# Altium footprint library 4G1.PcbLib: 32 footprints (part 1 of 2)
Each footprint in its own frame and in the unit in brackets; x right, y up, seen from the top. Pads: shape width x height; smd on the part's side, far side on the other; paste and mask are expansions set on the pad; w line width, h text height; cw(c..) or ccw(c..) is an arc to the next point about the centre after c.
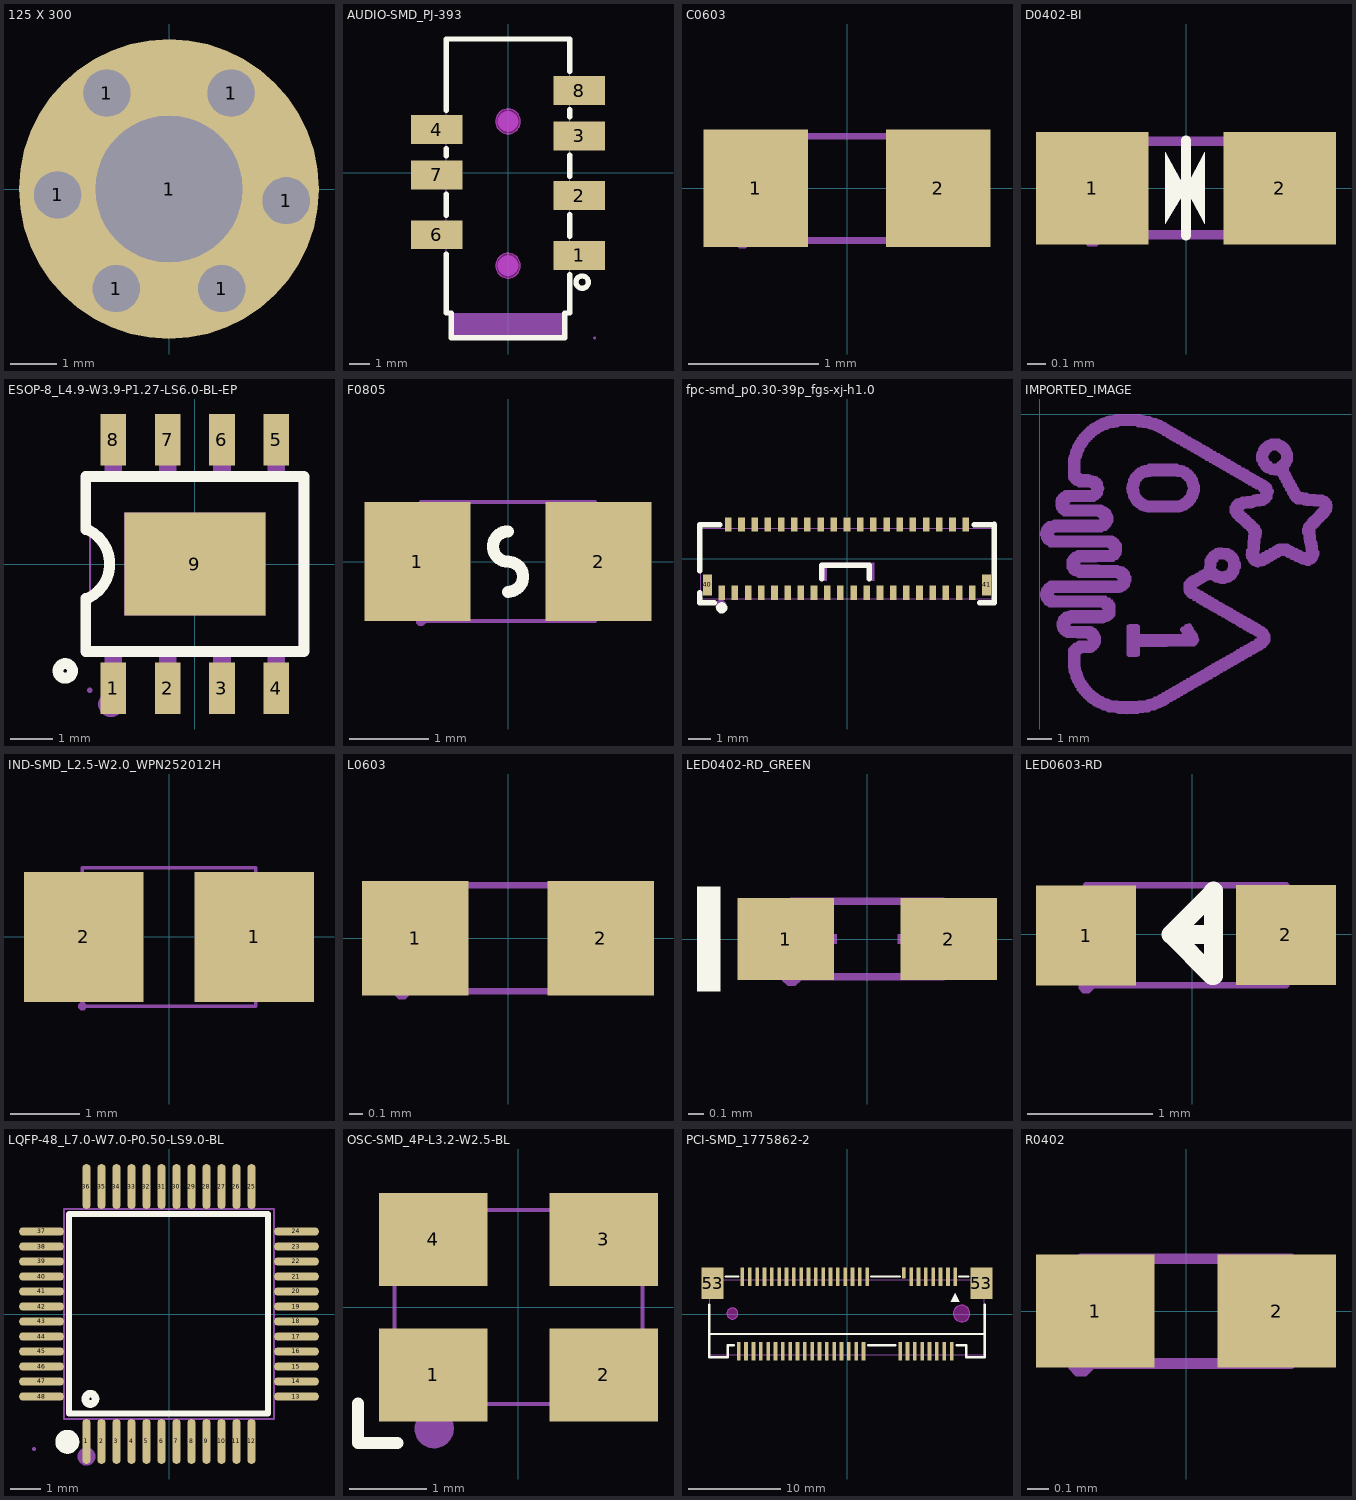
[diagram p0: the footprints below, top view; thin cyan lines are the x and y axes]

## 125 X 300 [mil]
pads (7):
  round 40 hole 40 slot 40.2 at 0 deg paste-99999 mask+4: 1(-95,-5) 1(100,-10)
  round 40 hole 40 slot 40.2 at 120 deg paste-99999 mask+4: 1(-53,81.8) 1(45,-85)
  round 40 hole 40 slot 40.2 at 60 deg paste-99999 mask+4: 1(-45,-85) 1(53,81.8)
  round 255.91 hole 125 slot 125.2 at 0 deg paste-99999 mask+4: 1(0,0)

## AUDIO-SMD_PJ-393 [mm]
pads (7):
  rect 2.5x1.4 smd: 1(3.45,-4) 2(3.45,-1.1) 3(3.45,1.8) 4(-3.45,2.1) 6(-3.45,-3) 7(-3.45,-0.1) 8(3.45,4)
Top Overlay:
  circle w0.254: c3.6,-5.3 r0.3
  lines w0.254: -3,-5.9 -3,-3.931 ; -3,-5.85 -3,-6.8 -2.75,-6.8 -2.75,-8 2.75,-8 2.75,-6.8 3,-6.8 3,-4.931 ; -3,-2.069 -3,-1.031 ; -3,0.831 -3,1.169 ; -3,3.031 -3,6.5 3,6.5 3,4.931 ; 3,-3.069 3,-2.031 ; 3,-0.169 3,0.869 ; 3,2.731 3,3.069
Keep-Out Layer:
  board cut-out: 0.6,-4.5 0.6,-4.619 0.509,-4.84 0.34,-5.009 0.119,-5.1 -0.119,-5.1 -0.34,-5.009 -0.509,-4.84 -0.6,-4.619 -0.6,-4.5 -0.6,-4.381 -0.509,-4.16 -0.34,-3.991 -0.119,-3.9 0.119,-3.9 0.34,-3.991 0.509,-4.16 0.6,-4.381 0.6,-4.5
  board cut-out: 0.6,2.5 0.6,2.38 0.509,2.16 0.34,1.991 0.119,1.9 -0.119,1.9 -0.34,1.991 -0.509,2.16 -0.6,2.38 -0.6,2.5 -0.6,2.619 -0.509,2.84 -0.34,3.008 -0.119,3.1 0.119,3.1 0.34,3.008 0.509,2.84 0.6,2.619 0.6,2.5
Keep-Out Layer:
  circle w0.005: c0,-4.5 r0.6
  circle w0.005: c0,2.5 r0.6
  region: 0.6,-4.5 0.6,-4.619 0.509,-4.84 0.34,-5.009 0.119,-5.1 -0.119,-5.1 -0.34,-5.009 -0.509,-4.84 -0.6,-4.619 -0.6,-4.5 -0.6,-4.381 -0.509,-4.16 -0.34,-3.991 -0.119,-3.9 0.119,-3.9 0.34,-3.991 0.509,-4.16 0.6,-4.381 0.6,-4.5
  region: 0.6,2.5 0.6,2.38 0.509,2.16 0.34,1.991 0.119,1.9 -0.119,1.9 -0.34,1.991 -0.509,2.16 -0.6,2.38 -0.6,2.5 -0.6,2.619 -0.509,2.84 -0.34,3.008 -0.119,3.1 0.119,3.1 0.34,3.008 0.509,2.84 0.6,2.619 0.6,2.5
Mechanical 1:
  circle w0.005: c0,-4.5 r0.6
  circle w0.005: c0,2.5 r0.6
Mechanical 6:
  circle w0.5: c0,2.5 r0.25
  circle w0.5: c0,-4.5 r0.25
  region: -2.7,-6.8 -2.7,-7.95 2.7,-7.95 2.7,-6.8
Mechanical 15:
  region: 4.26,-8 4.26,-8.025 4.225,-8.06 4.175,-8.06 4.14,-8.025 4.14,-8 4.14,-7.975 4.175,-7.94 4.225,-7.94 4.26,-7.975 4.26,-8
  region: 2.9,4.5 4.2,4.5 4.2,3.5 2.9,3.5
  region: -4.2,-2.5 -2.9,-2.5 -2.9,-3.5 -4.2,-3.5
  region: 2.9,-0.6 4.2,-0.6 4.2,-1.6 2.9,-1.6
  region: 2.9,2.3 4.2,2.3 4.2,1.3 2.9,1.3
  region: 2.9,-3.5 4.2,-3.5 4.2,-4.5 2.9,-4.5
  region: -4.2,0.4 -2.9,0.4 -2.9,-0.6 -4.2,-0.6
  region: -4.2,2.6 -2.9,2.6 -2.9,1.6 -4.2,1.6
  lines w0.051: -3,-6.8 -3,6.5 3,6.5 3,-6.8 2.75,-6.8 2.75,-8 -2.75,-8 -2.75,-6.8 -3,-6.8

## C0603 [mm]
pads (2):
  rect 0.8x0.9 smd paste+0 mask+0.051: 1(-0.7,0) 2(0.7,0)
Mechanical 15:
  region: 0.8,-0.4 0.8,0.4 0.5,0.4 0.5,-0.4
  region: -0.8,-0.4 -0.8,0.4 -0.5,0.4 -0.5,-0.4
  region: -0.74,-0.4 -0.74,-0.375 -0.775,-0.34 -0.825,-0.34 -0.86,-0.375 -0.86,-0.4 -0.86,-0.425 -0.825,-0.46 -0.775,-0.46 -0.74,-0.425 -0.74,-0.4
  lines w0.051: -0.8,-0.4 0.8,-0.4 0.8,0.4 -0.8,0.4 -0.8,-0.4

## D0402-BI [mm]
pads (2):
  rect 0.6x0.6 smd paste-100 mask+0.051: 1(-0.5,0) 2(0.5,0)
Top Overlay:
  region: 0,0 0.1,0.19 0.1,-0.19
  region: 0,-0.01 -0.11,-0.19 -0.11,-0.01 -0.11,0.19
  lines w0.051: 0,-0.254 0,0.254
Top Paste:
  region: 0.78,0.225 0.78,-0.225 0.73,-0.275 0.25,-0.275 0.18,-0.225 0.18,0.225 0.25,0.275 0.73,0.275
  region: -0.18,0.225 -0.18,-0.225 -0.25,-0.275 -0.73,-0.275 -0.78,-0.225 -0.78,0.225 -0.73,0.275 -0.25,0.275
Mechanical 6:
  region: 0,0 0.1,0.19 0.1,-0.19
  region: 0,-0.01 -0.11,-0.19 -0.11,-0.01 -0.11,0.19
Mechanical 15:
  region: -0.5,-0.31 -0.475,-0.31 -0.44,-0.275 -0.44,-0.225 -0.475,-0.19 -0.5,-0.19 -0.525,-0.19 -0.56,-0.225 -0.56,-0.275 -0.525,-0.31 -0.5,-0.31
  region: 0.25,0.25 0.5,0.25 0.5,-0.25 0.25,-0.25
  region: -0.25,-0.25 -0.5,-0.25 -0.5,0.25 -0.25,0.25
  lines w0.051: -0.5,-0.25 0.5,-0.25 0.5,0.25 -0.5,0.25 -0.5,-0.25

## ESOP-8_L4.9-W3.9-P1.27-LS6.0-BL-EP [mm]
pads (9):
  rect 0.6x1.2 smd: 1(-1.905,-2.908) 2(-0.635,-2.908) 3(0.635,-2.908) 4(1.905,-2.908) 5(1.905,2.908) 6(0.635,2.908) 7(-0.635,2.908) 8(-1.905,2.908)
  rect 3.3x2.4 smd: 9(0,0)
Top Overlay:
  circle w0.254: c-3.03,-2.5 r0.17
  lines w0.254: -2.55,-0.8 -2.55,-2.05 2.55,-2.05 2.55,2.05 -2.55,2.05 -2.55,0.8 ; -2.5,-0.8 ccw(c-2.875,0) -2.5,0.8
Mechanical 6:
  circle w0.3: c-1.96,-3.28 r0.15
Mechanical 15:
  region: 1.65,-1.2 -1.65,-1.2 -1.65,1.2 1.65,1.2
  region: 1.705,-2.95 1.705,-2.3 2.105,-2.3 2.105,-2.95
  region: 1.705,-2.31 1.705,-1.94 2.105,-1.94 2.105,-2.31
  region: 0.435,-2.95 0.435,-2.3 0.835,-2.3 0.835,-2.95
  region: 0.435,-2.31 0.435,-1.94 0.835,-1.94 0.835,-2.31
  region: -0.835,-2.95 -0.835,-2.3 -0.435,-2.3 -0.435,-2.95
  region: -0.835,-2.31 -0.835,-1.94 -0.435,-1.94 -0.435,-2.31
  region: -2.105,-2.95 -2.105,-2.3 -1.705,-2.3 -1.705,-2.95
  region: -2.105,-2.31 -2.105,-1.94 -1.705,-1.94 -1.705,-2.31
  region: 1.705,2.3 1.705,2.95 2.105,2.95 2.105,2.3
  region: 1.705,1.94 1.705,2.31 2.105,2.31 2.105,1.94
  region: 0.435,2.3 0.435,2.95 0.835,2.95 0.835,2.3
  region: 0.435,1.94 0.435,2.31 0.835,2.31 0.835,1.94
  region: -0.835,2.3 -0.835,2.95 -0.435,2.95 -0.435,2.3
  region: -0.835,1.94 -0.835,2.31 -0.435,2.31 -0.435,1.94
  region: -2.105,2.3 -2.105,2.95 -1.705,2.95 -1.705,2.3
  region: -2.105,1.94 -2.105,2.31 -1.705,2.31 -1.705,1.94
  region: -2.514,-2.95 -2.514,-2.975 -2.479,-3.01 -2.429,-3.01 -2.394,-2.975 -2.394,-2.95 -2.394,-2.925 -2.429,-2.89 -2.479,-2.89 -2.514,-2.925 -2.514,-2.95
  lines w0.051: -2.45,-1.95 -2.45,1.95 2.45,1.95 2.45,-1.95 -2.45,-1.95

## F0805 [mm]
pads (2):
  rect 1.335x1.5 smd paste-100 mask+0.051: 1(-1.142,0) 2(1.142,0)
Top Overlay:
  lines w0.152: 0,-0.381 ccw(c0,-0.191) 0,0 cw(c0,0.191) 0,0.381
Top Paste:
  region: 0.475,-0.62 0.475,-0.2 0.92,-0.2 0.92,0.25 0.48,0.25 0.475,0.66 0.525,0.71 1.675,0.71 1.725,0.66 1.725,-0.62 1.675,-0.67 0.525,-0.67
  region: -1.675,-0.62 -1.675,0.66 -1.625,0.71 -0.475,0.71 -0.425,0.66 -0.42,0.25 -0.87,0.25 -0.87,-0.2 -0.43,-0.2 -0.425,-0.62 -0.475,-0.67 -1.625,-0.67
Mechanical 15:
  region: 1.1,-0.75 0.9,-0.75 0.9,0.75 1.1,0.75
  region: -1.1,0.75 -0.9,0.75 -0.9,-0.75 -1.1,-0.75
  region: -1.16,-0.75 -1.16,-0.725 -1.125,-0.69 -1.075,-0.69 -1.04,-0.725 -1.04,-0.75 -1.04,-0.775 -1.075,-0.81 -1.125,-0.81 -1.16,-0.775 -1.16,-0.75
  lines w0.051: -1.1,-0.75 1.1,-0.75 1.1,0.75 -1.1,0.75 -1.1,-0.75

## fpc-smd_p0.30-39p_fgs-xj-h1.0 [mm]
pads (41):
  rect 0.3x0.65 smd paste+0 mask+0.051: 1(5.7,-1.55) 2(5.4,1.55) 3(5.1,-1.55) 4(4.8,1.55) 5(4.5,-1.55) 6(4.2,1.55) 7(3.9,-1.55) 8(3.6,1.55) 9(3.3,-1.55) 10(3,1.55) 11(2.7,-1.55) 12(2.4,1.55) 13(2.1,-1.55) 14(1.8,1.55) 15(1.5,-1.55) 16(1.2,1.55) 17(0.9,-1.55) 18(0.6,1.55) 19(0.3,-1.55) 20(0,1.55) 21(-0.3,-1.55) 22(-0.6,1.55) 23(-0.9,-1.55) 24(-1.2,1.55) 25(-1.5,-1.55) 26(-1.8,1.55) 27(-2.1,-1.55) 28(-2.4,1.55) 29(-2.7,-1.55) 30(-3,1.55) 31(-3.3,-1.55) 32(-3.6,1.55) 33(-3.9,-1.55) 34(-4.2,1.55) 35(-4.5,-1.55) 36(-4.8,1.55) 37(-5.1,-1.55) 38(-5.4,1.55) 39(-5.7,-1.55)
  rect 0.4x0.95 smd paste+0 mask+0.051: 40(-6.35,-1.2) 41(6.35,-1.2)
Top Overlay:
  circle w0.254: c-5.7,-2.24 r0.127
  lines w0.254: -6.705,1.544 -5.781,1.544 ; -6.701,-2 -6.044,-2 ; -6.701,-1.849 -6.701,-1.998 -6.701,-1.548 ; -6.701,-0.551 -6.701,1.544 ; -1.14,-0.92 -1.14,-0.3 1.02,-0.3 1.02,-0.92 ; 5.781,1.544 6.7,1.544 ; 6.044,-2 6.7,-2 ; 6.7,-1.85 6.7,-2 ; 6.7,-0.55 6.7,1.55 6.7,-1.55 6.7,-2
Mechanical 6:
  circle w0.254: c-5.74,-2.13 r0.127
  region: 0.99,-1.01 0.99,-0.42 1,-0.41 -0.93,-0.41 -0.93,-0.99 -0.93,-1.01 -0.95,-1.01 -1.17,-1.01 -1.17,-0.2 1.25,-0.2 1.25,-1 1.25,-1.01
Mechanical 15:
  drawing of 46 lines, arcs and shapes, not listed

## IMPORTED_IMAGE [mm]
Bottom Overlay:
  drawing of 3 lines, arcs and shapes, not listed

## IND-SMD_L2.5-W2.0_WPN252012H [mm]
pads (2):
  rect 1.724x1.87 smd: 1(1.228,0) 2(-1.228,0)
Mechanical 15:
  region: -0.45,-0.825 -1.25,-0.825 -1.25,0.825 -0.45,0.825
  region: 0.45,0.825 1.25,0.825 1.25,-0.825 0.45,-0.825
  region: -1.19,-1 -1.19,-0.975 -1.225,-0.94 -1.275,-0.94 -1.31,-0.975 -1.31,-1 -1.31,-1.025 -1.275,-1.06 -1.225,-1.06 -1.19,-1.025 -1.19,-1
  lines w0.051: -1.25,-1 1.25,-1 1.25,1 -1.25,1 -1.25,-1

## L0603 [mm]
pads (2):
  rect 0.8x0.864 smd paste-100 mask+0.051: 1(-0.7,0) 2(0.7,0)
Top Paste:
  region: 0.264,0.154 0.264,-0.122 0.538,-0.416 1.042,-0.416 1.106,-0.352 1.106,0.384 1.042,0.448 0.538,0.448
  region: -0.252,0.143 -0.252,-0.134 -0.526,-0.427 -1.029,-0.427 -1.093,-0.363 -1.093,0.373 -1.029,0.437 -0.526,0.437
Mechanical 15:
  region: -0.5,-0.4 -0.8,-0.4 -0.8,0.4 -0.5,0.4
  region: 0.8,-0.4 0.5,-0.4 0.5,0.4 0.8,0.4
  region: -0.8,-0.46 -0.825,-0.46 -0.86,-0.425 -0.86,-0.375 -0.825,-0.34 -0.8,-0.34 -0.775,-0.34 -0.74,-0.375 -0.74,-0.425 -0.775,-0.46 -0.8,-0.46
  lines w0.051: -0.8,-0.4 -0.8,0.4 0.8,0.4 0.8,-0.4 -0.8,-0.4

## LED0402-RD_GREEN [mm]
pads (2):
  rect 0.636x0.54 smd paste-100 mask+0.051: 1(-0.538,0) 2(0.538,0)
Top Overlay:
  region: -0.971,-0.346 -0.971,0.346 -1.123,0.346 -1.123,-0.346
Top Paste:
  region: -0.198,-0.23 -0.198,0.23 -0.238,0.27 -0.816,0.27 -0.856,0.23 -0.856,-0.23 -0.816,-0.27 -0.238,-0.27
  region: 0.198,-0.23 0.198,0.23 0.238,0.27 0.816,0.27 0.856,0.23 0.856,-0.23 0.816,-0.27 0.238,-0.27
Mechanical 6:
  region: 0.35,-0.2 0.35,0.2 0.29,0.2 0.29,-0.2
  region: 0.44,-0.03 0.44,0.03 0.2,0.03 0.2,-0.03
  region: -0.44,-0.03 -0.44,0.03 -0.2,0.03 -0.2,-0.03
Mechanical 15:
  region: 0.5,-0.25 0.5,0.25 0.3,0.25 0.3,-0.25
  region: -0.5,-0.25 -0.5,0.25 -0.3,0.25 -0.3,-0.25
  region: -0.5,-0.19 -0.475,-0.19 -0.44,-0.225 -0.44,-0.275 -0.475,-0.31 -0.5,-0.31 -0.525,-0.31 -0.56,-0.275 -0.56,-0.225 -0.525,-0.19 -0.5,-0.19
  lines w0.051: -0.5,-0.25 0.5,-0.25 0.5,0.25 -0.5,0.25 -0.5,-0.25

## LED0603-RD [mm]
pads (2):
  rect 0.8x0.8 smd: 1(-0.85,-0.01) 2(0.749,-0.003)
Top Overlay:
  lines w0.15: 0.17,0 -0.17,0 ; -0.17,0 0.17,0.34 0.17,0.35 0.17,-0.33 0.16,-0.33 -0.17,0
Mechanical 6:
  region: 0.479,0.062 1.019,0.062 1.019,-0.068 0.479,-0.068
  region: 0.684,-0.274 0.684,0.266 0.814,0.266 0.814,-0.274
  region: -1.12,0.055 -0.58,0.055 -0.58,-0.075 -1.12,-0.075
Mechanical 15:
  region: 0.45,-0.403 0.45,0.397 0.75,0.397 0.75,-0.403
  region: -0.85,-0.41 -0.85,0.39 -0.55,0.39 -0.55,-0.41
  region: -0.79,-0.41 -0.79,-0.435 -0.825,-0.47 -0.875,-0.47 -0.91,-0.435 -0.91,-0.41 -0.91,-0.385 -0.875,-0.35 -0.825,-0.35 -0.79,-0.385 -0.79,-0.41
  lines w0.051: -0.85,-0.407 0.75,-0.407 0.75,0.393 -0.85,0.393 -0.85,-0.407

## LQFP-48_L7.0-W7.0-P0.50-LS9.0-BL [mm]
pads (48):
  oval 0.27x1.5 smd paste+0 mask+0.05: 1(-2.75,-4.25) 2(-2.25,-4.25) 3(-1.75,-4.25) 4(-1.25,-4.25) 5(-0.75,-4.25) 6(-0.25,-4.25) 7(0.25,-4.25) 8(0.75,-4.25) 9(1.25,-4.25) 10(1.75,-4.25) 11(2.25,-4.25) 12(2.75,-4.25) 25(2.75,4.25) 26(2.25,4.25) 27(1.75,4.25) 28(1.25,4.25) 29(0.75,4.25) 30(0.25,4.25) 31(-0.25,4.25) 32(-0.75,4.25) 33(-1.25,4.25) 34(-1.75,4.25) 35(-2.25,4.25) 36(-2.75,4.25)
  oval 1.5x0.27 smd paste+0 mask+0.05: 13(4.25,-2.75) 14(4.25,-2.25) 15(4.25,-1.75) 16(4.25,-1.25) 17(4.25,-0.75) 18(4.25,-0.25) 19(4.25,0.25) 20(4.25,0.75) 21(4.25,1.25) 22(4.25,1.75) 23(4.25,2.25) 24(4.25,2.75) 37(-4.25,2.75) 38(-4.25,2.25) 39(-4.25,1.75) 40(-4.25,1.25) 41(-4.25,0.75) 42(-4.25,0.25) 43(-4.25,-0.25) 44(-4.25,-0.75) 45(-4.25,-1.25) 46(-4.25,-1.75) 47(-4.25,-2.25) 48(-4.25,-2.75)
Top Overlay:
  circle w0.254: c-2.62,-2.83 r0.17
  lines w0.2: -2.896,3.34 3.302,3.34 3.302,-3.315 -3.327,-3.315 -3.327,3.34 -2.565,3.34
  lines w0.4: -3.39,-4.06 ccw(c-3.389,-4.26) -3.387,-4.06
Mechanical 6:
  circle w0.3: c-2.75,-4.75 r0.15
Mechanical 15:
  drawing of 101 lines, arcs and shapes, not listed

## OSC-SMD_4P-L3.2-W2.5-BL [mm]
pads (4):
  rect 1.4x1.2 smd: 1(-1.1,-0.875) 2(1.1,-0.875) 3(1.1,0.875) 4(-1.1,0.875)
Top Overlay:
  lines w0.152: -2.07,-1.244 -2.07,-1.752 -1.562,-1.752
Mechanical 6:
  circle w0.254: c-1.088,-1.567 r0.127
  region: -1.738,-0.536 -1.702,-0.536 -1.702,-0.608 -1.738,-0.608
  region: -1.702,-0.536 -1.666,-0.536 -1.666,-0.608 -1.702,-0.608
  region: -1.666,-0.5 -1.63,-0.5 -1.63,-0.608 -1.666,-0.608
  region: -1.63,-0.464 -1.594,-0.464 -1.594,-0.572 -1.63,-0.572
  region: -1.594,-0.464 -1.558,-0.464 -1.558,-1.004 -1.594,-1.004
  region: -1.558,-0.428 -1.522,-0.428 -1.522,-1.004 -1.558,-1.004
  region: -1.522,-0.428 -1.486,-0.428 -1.486,-1.004 -1.522,-1.004
  region: -1.486,-0.428 -1.45,-0.428 -1.45,-1.004 -1.486,-1.004
Mechanical 15:
  region: 0.6,-0.449 1.5,-0.449 1.5,-1.249 0.6,-1.249
  region: -1.5,-0.449 -0.6,-0.449 -0.6,-1.249 -1.5,-1.249
  region: -1.5,1.249 -0.6,1.249 -0.6,0.449 -1.5,0.449
  region: 0.6,1.249 1.5,1.249 1.5,0.449 0.6,0.449
  region: -1.6,-1.31 -1.625,-1.31 -1.66,-1.275 -1.66,-1.225 -1.625,-1.19 -1.6,-1.19 -1.575,-1.19 -1.54,-1.225 -1.54,-1.275 -1.575,-1.31 -1.6,-1.31
  lines w0.051: -1.6,-1.25 1.6,-1.25 1.6,1.25 -1.6,1.25 -1.6,-1.25

## PCI-SMD_1775862-2 [mm]
pads (54):
  rect 0.4x2 smd: 1(11.8,4.05) 2(11.4,-4.05) 3(11,4.05) 4(10.6,-4.05) 5(10.2,4.05) 6(9.8,-4.05) 7(9.4,4.05) 8(9,-4.05) 9(8.6,4.05) 10(8.2,-4.05) 11(7.8,4.05) 12(7.4,-4.05) 13(7,4.05) 14(6.6,-4.05) 16(5.8,-4.05) 17(2.2,4.05) 18(1.8,-4.05) 19(1.4,4.05) 20(1,-4.05) 21(0.6,4.05) 22(0.2,-4.05) 23(-0.2,4.05) 24(-0.6,-4.05) 25(-1,4.05) 26(-1.4,-4.05) 27(-1.8,4.05) 28(-2.2,-4.05) 29(-2.6,4.05) 30(-3,-4.05) 31(-3.4,4.05) 32(-3.8,-4.05) 33(-4.2,4.05) 34(-4.6,-4.05) 35(-5,4.05) 36(-5.4,-4.05) 37(-5.8,4.05) 38(-6.2,-4.05) 39(-6.6,4.05) 40(-7,-4.05) 41(-7.4,4.05) 42(-7.8,-4.05) 43(-8.2,4.05) 44(-8.6,-4.05) 45(-9,4.05) 46(-9.4,-4.05) 47(-9.8,4.05) 48(-10.2,-4.05) 49(-10.6,4.05) 50(-11,-4.05) 51(-11.4,4.05) 52(-11.8,-4.05)
  rect 0.4x1.2 smd: 15(6.2,4.45)
  rect 2.4x3.4 smd: 53(-14.65,3.35) 53(14.65,3.35)
Top Overlay:
  region: 11.78,2.26 11.335,1.323 12.225,1.313
  lines w0.254: -15,-2.172 15,-2.172 ; -15,1 -15,-4.71 -13,-4.71 -13,-3.4 -12.4,-3.4 -12.331,-3.4 ; -13.219,4.08 -11.831,4.08 ; 2.331,-3.4 5.269,-3.4 ; 2.631,4.08 5.769,4.08 ; 11.931,-3.4 13,-3.4 13,-4.71 15,-4.71 15,1 ; 12.231,4.08 13.219,4.08
Keep-Out Layer:
  board cut-out: 13.4,0.05 13.4,0.169 13.339,0.397 13.22,0.603 13.053,0.77 12.847,0.889 12.619,0.95 12.382,0.95 12.153,0.889 11.947,0.77 11.78,0.603 11.661,0.397 11.6,0.169 11.6,0.05 11.6,-0.068 11.661,-0.297 11.78,-0.503 11.947,-0.67 12.153,-0.789 12.382,-0.85 12.619,-0.85 12.847,-0.789 13.053,-0.67 13.22,-0.503 13.339,-0.297 13.4,-0.068 13.4,0.05
  board cut-out: -11.9,0.05 -11.9,0.169 -11.991,0.39 -12.16,0.559 -12.381,0.65 -12.619,0.65 -12.84,0.559 -13.009,0.39 -13.1,0.169 -13.1,0.05 -13.1,-0.069 -13.009,-0.29 -12.84,-0.459 -12.619,-0.55 -12.381,-0.55 -12.16,-0.459 -11.991,-0.29 -11.9,-0.069 -11.9,0.05
Keep-Out Layer:
  circle w0.025: c12.5,0.05 r0.9
  circle w0.025: c-12.5,0.05 r0.6
  region: 13.4,0.05 13.4,0.169 13.339,0.397 13.22,0.603 13.053,0.77 12.847,0.889 12.619,0.95 12.382,0.95 12.153,0.889 11.947,0.77 11.78,0.603 11.661,0.397 11.6,0.169 11.6,0.05 11.6,-0.068 11.661,-0.297 11.78,-0.503 11.947,-0.67 12.153,-0.789 12.382,-0.85 12.619,-0.85 12.847,-0.789 13.053,-0.67 13.22,-0.503 13.339,-0.297 13.4,-0.068 13.4,0.05
  region: -11.9,0.05 -11.9,0.169 -11.991,0.39 -12.16,0.559 -12.381,0.65 -12.619,0.65 -12.84,0.559 -13.009,0.39 -13.1,0.169 -13.1,0.05 -13.1,-0.069 -13.009,-0.29 -12.84,-0.459 -12.619,-0.55 -12.381,-0.55 -12.16,-0.459 -11.991,-0.29 -11.9,-0.069 -11.9,0.05
Mechanical 1:
  circle w0.025: c12.5,0.05 r0.9
  circle w0.025: c-12.5,0.05 r0.6
Mechanical 6:
  region: 11.78,2.26 11.336,1.323 12.226,1.313
Mechanical 15:
  drawing of 59 lines, arcs and shapes, not listed

## R0402 [mm]
pads (2):
  rect 0.566x0.54 smd paste-100 mask+0.051: 1(-0.433,0) 2(0.433,0)
Top Paste:
  region: -0.135,-0.23 -0.135,0.23 -0.175,0.27 -0.676,0.27 -0.716,0.23 -0.716,-0.23 -0.676,-0.27 -0.175,-0.27
  region: 0.135,-0.23 0.135,0.23 0.175,0.27 0.676,0.27 0.716,0.23 0.716,-0.23 0.676,-0.27 0.175,-0.27
Mechanical 15:
  region: -0.249,0.25 -0.249,-0.25 -0.499,-0.25 -0.499,0.25
  region: 0.251,-0.25 0.251,0.25 0.501,0.25 0.501,-0.25
  region: -0.5,-0.31 -0.475,-0.31 -0.44,-0.275 -0.44,-0.225 -0.475,-0.19 -0.5,-0.19 -0.525,-0.19 -0.56,-0.225 -0.56,-0.275 -0.525,-0.31 -0.5,-0.31
  lines w0.051: -0.5,-0.25 0.5,-0.25 0.5,0.25 -0.5,0.25 -0.5,-0.25